# Altium schematic symbol library TPS55289RYQR.SchLib: 1 symbol
Pins are listed as number, name and electrical type; pins without a type are passive.

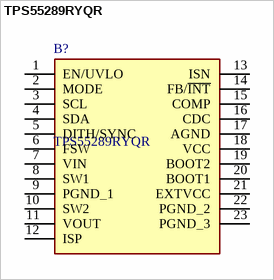
[diagram p0: symbol TPS55289RYQR]

## TPS55289RYQR
designator B?
30-V, 8-A buck-boost converter with IC interface; Manufacturer_Name: Texas Instruments; Geometry.Height: 1mm; Mouser Part Number: 595-TPS55289RYQR; Mouser Price/Stock: https://www.mouser.co.uk/ProductDetail/Texas-Instruments/TPS55289RYQR?qs=T%252BzbugeAwjhgaIN94Lbpjg%3D%3D; Manufacturer_Part_Number: TPS55289RYQR; Datasheet Link: https://www.ti.com/lit/ds/symlink/tps55289.pdf?ts=1664818706180&ref_url=https%253A%252F%252Fwww.ti.com%252Fproduct%252FTPS55289%252Fpart-details%252FTPS55289RYQR%253FkeyMatch%253DTPS55289RYQR
footprint TPS55289RYQR
pins: 1 EN/UVLO, 2 MODE, 3 SCL, 4 SDA, 5 DITH/SYNC, 6 FSW, 7 VIN, 8 SW1, 9 PGND_1, 10 SW2, 11 VOUT, 12 ISP, 13 ISN, 14 FB/~{INT}, 15 COMP, 16 CDC, 17 AGND, 18 VCC, 19 BOOT2, 20 BOOT1, 21 EXTVCC, 22 PGND_2, 23 PGND_3